# EAGLE library part LS7766DO (library lsi-computer-systems)
32-BIT SINGLE- AXIS/DUAL-AXIS QUADRATURE COUNTER Source: http://www.lsicsi.com/pdfs/Data_Sheets/LS7766.pdf
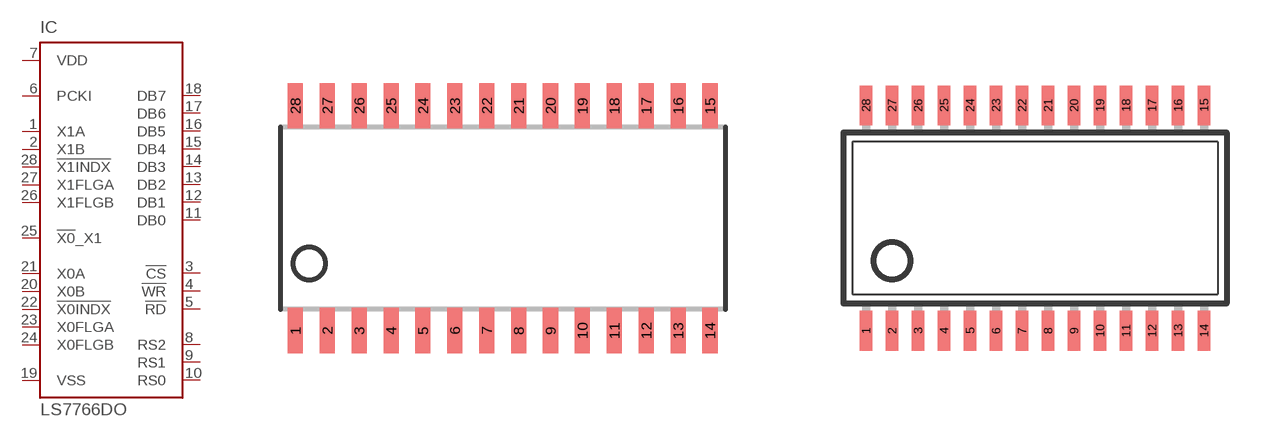
[diagram p1: symbol with the pads of SOIC28L; footprints SOIC28L, TSSOP28]

Designator prefix IC

## LS7766DO-S  [SOIC28L]
1  X1A  in
2  X1B  in
3  !CS  in
4  !WR  in
5  !RD  in
6  PCKI  in
7  VDD  pwr
8  RS2  in
9  RS1  in
10  RS0  in
11  DB0  hiz
12  DB1  hiz
13  DB2  hiz
14  DB3  hiz
15  DB4  hiz
16  DB5  hiz
17  DB6  hiz
18  DB7  hiz
19  VSS  pwr
20  X0B  in
21  X0A  in
22  !X0INDX  in
23  X0FLGA  out
24  X0FLGB  out
25  !X0!_X1  out
26  X1FLGB  out
27  X1FLGA  out
28  !X1INDX  in

## LS7766DO-TS  [TSSOP28]
Pads as for SOIC28L

## Footprint SOIC28L (pad centres in mm)
SMALL OUTLINE PACKAGE 17.9 x 10.3 Source: http://www.lsicsi.com/pdfs/Drawings/SOIC%20Outline%20Dwgs.pdf
smd 0.6 x 1.8: 1 -8.255,-4.475; 2 -6.985,-4.475; 3 -5.715,-4.475; 4 -4.445,-4.475; 5 -3.175,-4.475; 6 -1.905,-4.475; 7 -0.635,-4.475; 8 0.635,-4.475; 9 1.905,-4.475; 10 3.175,-4.475; 11 4.445,-4.475; 12 5.715,-4.475; 13 6.985,-4.475; 14 8.255,-4.475; 15 8.255,4.475; 16 6.985,4.475; 17 5.715,4.475; 18 4.445,4.475; 19 3.175,4.475; 20 1.905,4.475; 21 0.635,4.475; 22 -0.635,4.475; 23 -1.905,4.475; 24 -3.175,4.475; 25 -4.445,4.475; 26 -5.715,4.475; 27 -6.985,4.475; 28 -8.255,4.475

## Footprint TSSOP28 (pad centres in mm)
Thin Shrink Small Outline Plastic 28 Source: http://www.lsicsi.com/pdfs/Drawings/TSSOP_OD.pdf
smd 0.305 x 0.991: 1 -4.225,-2.818; 2 -3.575,-2.818; 3 -2.925,-2.818; 4 -2.275,-2.818; 5 -1.625,-2.818; 6 -0.975,-2.818; 7 -0.325,-2.818; 8 0.325,-2.818; 9 0.975,-2.818; 10 1.625,-2.818; 11 2.275,-2.818; 12 2.925,-2.818; 13 3.575,-2.818; 14 4.225,-2.818; 15 4.225,2.818; 16 3.575,2.818; 17 2.925,2.818; 18 2.275,2.818; 19 1.625,2.818; 20 0.975,2.818; 21 0.325,2.818; 22 -0.325,2.818; 23 -0.975,2.818; 24 -1.625,2.818; 25 -2.275,2.818; 26 -2.925,2.818; 27 -3.575,2.818; 28 -4.225,2.818